# Altium schematic symbol library SchLib_ADH.SchLib: 241 symbols (part 4 of 9)
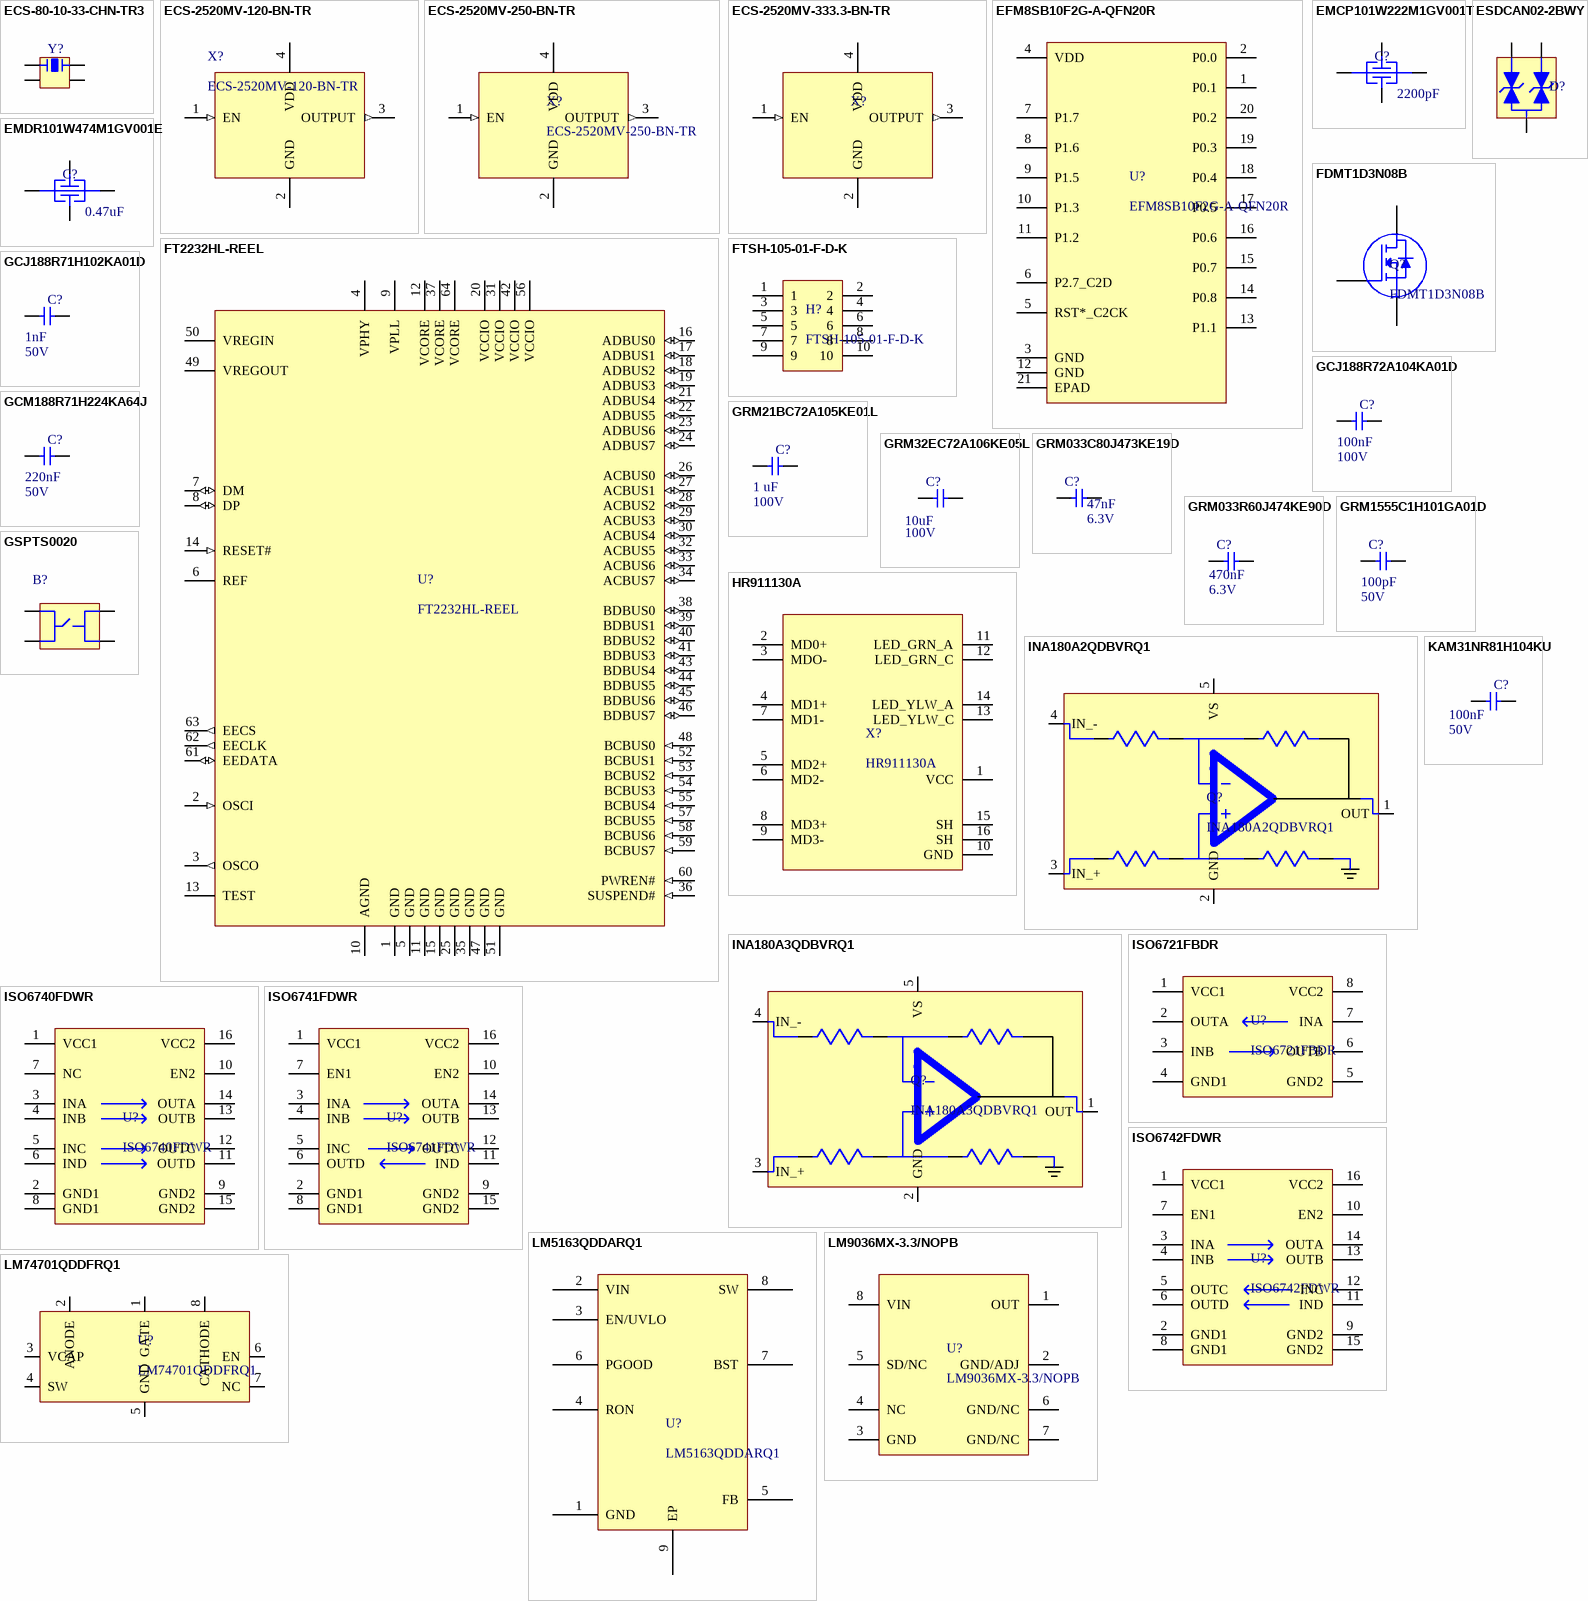
[diagram p10: symbols ECS-80-10-33-CHN-TR3 to LM74701QDDFRQ1]

## ECS-2520MV-333.3-BN-TR
designator X?  (value not drawn)
Oscillator XO 33.333MHz ±50ppm 15pF HCMOS 55% 1.8V/2.5V/3.3V 4-Pin Mini-CSMD T/R; Manufacturer: ECS International; Body Material: Ceramic; Fall Time: 7ns; Frequency: 33.3333MHz; Max Supply Current: 7mA; Max Supply Voltage: 3.6V; Min Supply Voltage: 1.6V; Supplier: Avnet; Supplier Part Number: ECS-2520MV-333.3-BN-TR; Manufacturer Part Number: ECS-2520MV-333.3-BN-TR; RoHS: Compliant; Category: Crystals; Stock: 6000; Pricing: 3000=0,99, 12000=0,985, 24000=0,98, 51000=0,975, 102000=0,97 (USD); Export Control Classification Number (ECCN) Code: EAR99; Frequency Stability: 50ppm; Introduction Date: 2018-03-21; Lifecycle Status: Production; Load Capacitance: 15pF; Max Operating Temperature: 85°C; Min Operating Temperature: -40°C; Mounting Technology: Surface Mount; Number of Terminals: 4; REACH SVHC: Yes; Rise Time: 7ns; Schedule B: 8542310000, 8542310000|8542310000|8542310000|8542310000|8542310000|8542310000|8542310000|8542310000|8542310000|8542310000|8542310000|8542310000|8542310000|8542310000|8542310000|8542310000|8542310000|8542310000|8542310000|8542310000|8542310000|8542310000|8542310000|85, 8542390000; ComponentLink1URL: https://datasheet.octopart.com:443/ECS-2520MV-333.3-BN-TR-ECS-International-datasheet-179230857.pdf?src-supplier=IHS; ComponentLink1Description: https://datasheet.octopart.com:443/ECS-2520MV-333.3-BN-TR-ECS-International-datasheet-179230857.pdf?src-supplier=IHS; ComponentLink2URL: https://datasheet.octopart.com:443/ECS-2520MV-333.3-BN-TR-ECS-International-datasheet-104167383.pdf?src-supplier=Master+Electronics; ComponentLink2Description: https://datasheet.octopart.com:443/ECS-2520MV-333.3-BN-TR-ECS-International-datasheet-104167383.pdf?src-supplier=Master+Electronics; ComponentLink3URL: https://datasheet.octopart.com:443/ECS-2520MV-333.3-BN-TR-ECS-International-datasheet-189099886.pdf?src-supplier=Master+Electronics; ComponentLink3Description: https://datasheet.octopart.com:443/ECS-2520MV-333.3-BN-TR-ECS-International-datasheet-189099886.pdf?src-supplier=Master+Electronics
footprint OSCCC250X200X90N
pins: 1 EN (in), 2 GND (power), 3 OUTPUT (out), 4 VDD (power)

## EFM8SB10F2G-A-QFN20R
designator U?
Microcontroller, 8-Bit, FLASH, 8051 CPU, 25MHz, CMOS; Manufacturer: Silicon Labs; Number of I/O Lines: 16; Speed: 25RPM; Max Supply Voltage: 3.6V; Min Supply Voltage: 1.8V; Nominal Supply Voltage: 3V; Supplier 1: Digikey; Manufacturer Part Number: EFM8SB10F2G-A-QFN20R; RoHS: Yes; Category: Microcontrollers; Stock 1: 2933; Pricing 1: 1=1.5, 10=1.341, 25=1.2728, 100=1.0454, 250=0.97716, 500=0.86356 (USD); Case/Package: HVQCCN; Pins: 20; Package Shape: Square; Min Operating Temperature: -40°C; Max Operating Temperature: 85°C; Clock Frequency: 25MHz; JESD-30 Code: S-XQCC-N20; Package Style: CHIP CARRIER, HEAT SINK/SLUG, VERY THIN PROFILEMeter; Surface Mount: Yes; Technology: CMOS; Terminal Form: No Lead; Terminal Position: QUAD; Length: 3mm; Width: 3mm; Height - Seated (Max): 0.6mm; Terminal Pitch: 0.5mm; Temperature Grade: INDUSTRIAL; Reach SVHC Compliant: Yes; RoHS Compliant: Yes; ComponentLink1URL: https://datasheet.ciiva.com:443/pdfs/VipMasterIC/IC/SILC/SILC-S-A0002743196/SILC-S-A0002743196-1.pdf?src-supplier=IHS+Markit; ComponentLink1Description: https://datasheet.ciiva.com:443/pdfs/VipMasterIC/IC/SILC/SILC-S-A0002743196/SILC-S-A0002743196-1.pdf?src-supplier=IHS+Markit; ComponentLink2URL: http://www.mouser.com/ds/2/368/EFM8SB1_DataSheet-533978.pdf?src-supplier=Mouser; ComponentLink2Description: http://www.mouser.com/ds/2/368/EFM8SB1_DataSheet-533978.pdf?src-supplier=Mouser; ComponentLink3URL: https://www.silabs.com/documents/public/data-sheets/efm8sb1-datasheet.pdf?src-supplier=Digikey; ComponentLink3Description: https://www.silabs.com/documents/public/data-sheets/efm8sb1-datasheet.pdf?src-supplier=Digikey; ComponentLink4URL: http://www.silabs.com/documents/public/data-sheets/efm8sb1-datasheet.pdf?src-supplier=Digikey; ComponentLink4Description: http://www.silabs.com/documents/public/data-sheets/efm8sb1-datasheet.pdf?src-supplier=Digikey; Supplier Part Number 1: 336-4748-1-ND
footprint QFN50P300X300X80-21N
pins: 1 P0.1, 2 P0.0, 3 GND, 4 VDD, 5 RST*_C2CK, 6 P2.7_C2D, 7 P1.7, 8 P1.6, 9 P1.5, 10 P1.3, 11 P1.2, 12 GND, 13 P1.1, 14 P0.8, 15 P0.7, 16 P0.6, 17 P0.5, 18 P0.4, 19 P0.3, 20 P0.2, 21 EPAD

## EMCP101W222M1GV001T
designator C?  value 2200pF  (hidden comment: EMCP101W222M1GV001T)
Cap Cer 2200PF 100V X7R 0603; Manufacturer: Johanson; Supplier: Digikey; Supplier Part Number: 709-EMCP101W222M1GV001TCT-ND; Manufacturer Part Number: EMCP101W222M1GV001T; RoHS: No; Category: Ceramic Capacitors; Stock: 38413; Pricing: 1=0,3, 10=0,197, 50=0,1452, 100=0,1183, 500=0,0934, 1000=0,07887 (USD)
footprint FIL_160X14W473MV4T
pins: 1, 2, 3, 4

## EMDR101W474M1GV001E
designator C?, comment value 0.47uF  (hidden comment: *EMDR101W474M1GV001E)
Mlcc X2Y 1812 .47UF 100V X7R; Manufacturer: Johanson; Supplier: Digikey; Supplier Part Number: 709-EMDR101W474M1GV001ECT-ND; Manufacturer Part Number: EMDR101W474M1GV001E; RoHS: No; Category: Ceramic Capacitors; Stock: 31831; Pricing: 1=1,84, 10=1,414, 50=1,2992, 100=1,0773, 500=0,86618 (USD)
footprint X2Y_1812
pins: 1, 2, 3, 4

## ESDCAN02-2BWY
designator D?  (value not drawn)
Trans Voltage Suppressor Diode, 250W, 26.5V V(RWM), Bidirectional, 2 Element, Silicon; Manufacturer: STMicroelectronics; Package Body Material: Plastic; Max Breakdown Voltage: 31.7V; Min Breakdown Voltage: 28.5V; Number of Elements: 2; Reference Standard: AEC-Q101; Supplier 1: Digikey; Manufacturer Part Number: ESDCAN02-2BWY; RoHS: Yes; Category: TVS Diodes; Stock 1: 18415; Pricing 1: 1=0.4, 10=0.309, 100=0.1854, 500=0.1717, 1000=0.11676 (USD); Pins: 3; Diode Element Material: SILICON; Package Shape: Rectangular; Min Operating Temperature: -55°C; Max Operating Temperature: 175°C; Polarity: Bidirectional; Diode Type: TRANS VOLTAGE SUPPRESSOR; JESD-30 Code: R-PDSO-G3; Non-rep Peak Rev Power Dis-Max: 250W; Package Style: SMALL OUTLINEMeter; Rep Pk Reverse Voltage-Max: 26.5V; Surface Mount: Yes; Technology: AVALANCHE; Terminal Form: Gull Wing; Terminal Position: DUAL; Reach SVHC Compliant: Yes; RoHS Compliant: Yes; ComponentLink1URL: https://datasheet.ciiva.com:443/pdfs/VipMasterIC/IC/SGST/SGST-S-A0006719210/SGST-S-A0006719210-1.pdf?src-supplier=IHS+Markit; ComponentLink1Description: https://datasheet.ciiva.com:443/pdfs/VipMasterIC/IC/SGST/SGST-S-A0006719210/SGST-S-A0006719210-1.pdf?src-supplier=IHS+Markit; ComponentLink2URL: http://www.mouser.com/ds/2/389/esdcan02-2bwy-954689.pdf?src-supplier=Mouser; ComponentLink2Description: http://www.mouser.com/ds/2/389/esdcan02-2bwy-954689.pdf?src-supplier=Mouser; ComponentLink3URL: https://www.st.com/resource/en/datasheet/esdcan06-2bwy.pdf?src-supplier=Digikey; ComponentLink3Description: https://www.st.com/resource/en/datasheet/esdcan06-2bwy.pdf?src-supplier=Digikey; Supplier Part Number 1: 497-15845-1-ND
footprint SOT65P210X110-3N
pins: 1, 2, 3

## FDMT1D3N08B
designator Q?
N-Channel PowerTrench® MOSFET, Dual CoolTM 88, 80V 164A, 1.35mΩ; Manufacturer: ON Semiconductor / Fairchild; Element Configuration: Single; Rds On Max: 1.35mR; Input Capacitance: 19.6nF; Max Power Dissipation: 178W; Supplier: Digikey; Supplier Part Number: 488-FDMT1D3N08BCT-ND; Manufacturer Part Number: FDMT1D3N08B; RoHS: Yes; Category: Uncategorized; Stock: 2821; Pricing: 1=6,32, 10=5,421, 100=4,5173, 500=3,98582, 1000=3,58723 (USD); Mounting Technology: Surface Mount; Pins: 8; Weight: 0.24852072g; Min Operating Temperature: -55°C; Max Operating Temperature: 150°C; Drain to Source Voltage (Vdss): 80V; Continuous Drain Current (ID): 164A; Series: PowerTrench®; RoHS Compliant: Yes; ComponentLink1URL: http://www.onsemi.com/pub/Collateral/FDMT1D3N08B-D.pdf?src-supplier=Digikey; ComponentLink1Description: http://www.onsemi.com/pub/Collateral/FDMT1D3N08B-D.pdf?src-supplier=Digikey
footprint PQFN8_8X8
pins: 1, 2, 3, 4, 5, 6, 7, 8

## FT2232HL-REEL
designator U?
USB Hi-Speed to Dual Channel Serial UART/FIFO/JTAG/SPI/I2C IC - LQFP-64; Manufacturer: FTDI; Data Rate: 60Mbps; Dual Supply Voltage: 3.3V; ESD Protection: Yes; Clock Frequency: 12MHz; Max Supply Voltage: 1.98V; Min Supply Voltage: 1.62V; Number of Channels: 2; Number of Transceivers: 4; Operating Supply Current: 70mA; Operating Supply Voltage: 1.8V; Supplier: Farnell; Supplier Part Number: 1697461; Manufacturer Part Number: FT2232HL-REEL; RoHS: Compliant; Category: UART Interface ICs; Stock: 54563; Pricing: 1=4,6, 10=4,42, 25=4,36, 50=4,31, 100=4,25, 250=4,06, 500=3,84 (EUR); Case/Package: LQFP; Features: I²C; Height: 1.4mm; Height - Seated (Max): 1.6mm; Lead Free: Lead Free; Length: 10mm; Lifecycle Status: Production; Max Operating Temperature: 85°C; Min Operating Temperature: -40°C; Mounting Technology: Surface Mount; Pins: 64; Number of Terminals: 64; Radiation Hardening: No; REACH SVHC: Yes; Schedule B: 8542390000, 8542390000|8542390000|8542390000|8542390000|8542390000; Terminal Pitch: 500µm; Weight: 342.689036mg; Width: 10mm; ComponentLink1URL: https://datasheet.octopart.com:443/FT2232HL-REEL-FTDI-datasheet-182343128.pdf?src-supplier=IHS; ComponentLink1Description: https://datasheet.octopart.com:443/FT2232HL-REEL-FTDI-datasheet-182343128.pdf?src-supplier=IHS; ComponentLink2URL: https://datasheet.octopart.com:443/FT2232HL-REEL-FTDI-datasheet-10548643.pdf?src-supplier=Upverter; ComponentLink2Description: https://datasheet.octopart.com:443/FT2232HL-REEL-FTDI-datasheet-10548643.pdf?src-supplier=Upverter; ComponentLink3URL: https://datasheet.octopart.com:443/FT2232HL-REEL-FTDI-datasheet-12520010.pdf?src-supplier=SHENGYU+ELECTRONICS; ComponentLink3Description: https://datasheet.octopart.com:443/FT2232HL-REEL-FTDI-datasheet-12520010.pdf?src-supplier=SHENGYU+ELECTRONICS; ComponentLink4URL: https://datasheet.octopart.com:443/FT2232HL-REEL-FTDI-datasheet-68321328.pdf?src-supplier=TME; ComponentLink4Description: https://datasheet.octopart.com:443/FT2232HL-REEL-FTDI-datasheet-68321328.pdf?src-supplier=TME; ComponentLink5URL: https://datasheet.octopart.com:443/FT2232HL-REEL-FTDI-datasheet-49858841.pdf?src-supplier=TME; ComponentLink5Description: https://datasheet.octopart.com:443/FT2232HL-REEL-FTDI-datasheet-49858841.pdf?src-supplier=TME; ComponentLink6URL: https://datasheet.octopart.com:443/FT2232HL-REEL-FTDI-datasheet-15949901.pdf?src-supplier=iiiC; ComponentLink6Description: https://datasheet.octopart.com:443/FT2232HL-REEL-FTDI-datasheet-15949901.pdf?src-supplier=iiiC
footprint LQFP-64-0.5mm (TSQFP, 64-Leads, Body 10.00x10.00mm, Pitch 0.50mm, IPC Medium Density)
pins: 1 GND (power), 2 OSCI (in), 3 OSCO (out), 4 VPHY (power), 5 GND (power), 6 REF, 7 DM (io), 8 DP (io), 9 VPLL (power), 10 AGND (power), 11 GND (power), 12 VCORE (power), 13 TEST, 14 RESET# (in), 15 GND (power), 16 ADBUS0 (io), 17 ADBUS1 (io), 18 ADBUS2 (io), 19 ADBUS3 (io), 20 VCCIO (power), 21 ADBUS4 (io), 22 ADBUS5 (io), 23 ADBUS6 (io), 24 ADBUS7 (io), 25 GND (power), 26 ACBUS0 (io), 27 ACBUS1 (io), 28 ACBUS2 (io), 29 ACBUS3 (io), 30 ACBUS4 (io), 31 VCCIO (power), 32 ACBUS5 (io), 33 ACBUS6 (io), 34 ACBUS7 (io), 35 GND (power), 36 SUSPEND# (in), 37 VCORE (power), 38 BDBUS0 (io), 39 BDBUS1 (io), 40 BDBUS2 (io), 41 BDBUS3 (io), 42 VCCIO (power), 43 BDBUS4 (io), 44 BDBUS5 (io), 45 BDBUS6 (io), 46 BDBUS7 (io), 47 GND (power), 48 BCBUS0 (in), 49 VREGOUT (power), 50 VREGIN (power), 51 GND (power), 52 BCBUS1 (in), 53 BCBUS2 (in), 54 BCBUS3 (in), 55 BCBUS4 (in), 56 VCCIO (power), 57 BCBUS5 (in), 58 BCBUS6 (in), 59 BCBUS7 (in), 60 PWREN# (in), 61 EEDATA (io), 62 EECLK (out), 63 EECS (out), 64 VCORE (power)

## FTSH-105-01-F-D-K
designator H?
Conn Unshrouded Header HDR 10 POS 1.27mm Solder ST Top Entry Thru-Hole Tube; Manufacturer: Samtec; Number of Positions: 10; Max Current Rating: 1.75A; Row Spacing: 0.05inch; Supplier: Digi-Key; Supplier Part Number: 612-FTSH-105-01-F-D-K-ND; Manufacturer Part Number: FTSH-105-01-F-D-K; RoHS: Yes; Category: Headers and Wire Housings; Stock: 19656; Pricing: 1=2,85, 10=2,591, 100=2,2826, 500=1,9402, 1000=1,65488, 5000=1,48369 (USD); Mounting Technology: Through Hole; Contact Plating: Gold; Contact Material: Bronze; Housing Color: Black; Housing Material: Polymer; Color: Black; Min Operating Temperature: -55°C; Max Operating Temperature: 125°C; Number of Rows: 2; Termination: Solder; Packaging: Rail/Tube; Number of Contacts: 10; Orientation: Straight; Series: FTSH; Contact Type: Male Pin; Package Quantity: 1; Length: 6.35mm; Pitch: 1.27mm; Depth: 3.43mm; Contact Mating Length: 0.12inch; Radiation Hardening: No; RoHS Compliant: Yes; ComponentLink1URL: https://datasheet.ciiva.com/15195/getdatasheetpartid-257317-15195258.pdf?src-supplier=Verical; ComponentLink1Description: https://datasheet.ciiva.com/15195/getdatasheetpartid-257317-15195258.pdf?src-supplier=Verical; ComponentLink2URL: https://datasheet.ciiva.com/727/ftsh-1xx-xx-xxx-d-xx-mkt-727195.pdf?src-supplier=Digi-Key; ComponentLink2Description: https://datasheet.ciiva.com/727/ftsh-1xx-xx-xxx-d-xx-mkt-727195.pdf?src-supplier=Digi-Key
footprint SAMTEC_FTSH-105-01-F-D-K
pins: 1, 2, 3, 4, 5, 6, 7, 8, 9, 10

## GCJ188R71H102KA01D
designator C?  value 1nF  Voltage Rating: 50V  (hidden comment: GCJ188R71H102KA01D)
Multilayer Ceramic Capacitor, 1000 pF, 50 V, ± 10%, X7R, 0603 [1608 Metric]; Manufacturer: Murata; Material: 4241ConductorMaterial; Supplier: Digikey; Supplier Part Number: 490-5768-1-ND; Manufacturer Part Number: GCJ188R71H102KA01D; RoHS: Yes; Category: Ceramic Capacitors; Stock: 165908; Pricing: 1=0,17, 10=0,098, 50=0,0686, 100=0,0595, 500=0,04414, 1000=0,03936 (USD); Mounting Technology: Surface Mount; Case/Package: 0603; Case Code (Metric): 1608; Case Code (Imperial): 0603; Min Operating Temperature: -55°C; Max Operating Temperature: 125°C; Package Quantity: 1; Tolerance: 10%; Packaging: Tape and Reel; Dielectric: X7R; Voltage Rating (DC): 50V; Termination: SMD/SMT; Features: Soft Termination; Series: GCJ; Length: 0.063inch; Width: 0.031inch; Thickness: 0.031inch; Ratings: AEC-Q200; RoHS Compliant: Yes; ComponentLink1URL: https://datasheet.ciiva.com/134/product-134545.pdf?src-supplier=Digikey; ComponentLink1Description: https://datasheet.ciiva.com/134/product-134545.pdf?src-supplier=Digikey; ComponentLink2URL: https://datasheet.ciiva.com/134/s0717e-134546.pdf?src-supplier=Digikey; ComponentLink2Description: https://datasheet.ciiva.com/134/s0717e-134546.pdf?src-supplier=Digikey; ComponentLink3URL: https://datasheet.ciiva.com/134/s0717e-134547.pdf?src-supplier=Digikey; ComponentLink3Description: https://datasheet.ciiva.com/134/s0717e-134547.pdf?src-supplier=Digikey
footprint CAPC1608X94N
pins: 1, 2 12

## GCJ188R72A104KA01D
designator C?  value 100nF  Voltage Rating: 100V  (hidden comment: GCJ188R72A104KA01D)
Cap Ceramic 0.1uF 100V X7R 10% Pad SMD 0603 Soft Termination 125C Automotive T/R; Manufacturer: Murata; Material: 4241ConductorMaterial; Supplier: Digikey; Supplier Part Number: 490-13420-1-ND; Manufacturer Part Number: GCJ188R72A104KA01D; RoHS: Yes; Category: Ceramic Capacitors; Stock: 681954; Pricing: 1=0,19, 10=0,123, 50=0,0774, 100=0,0619, 500=0,04472, 1000=0,03956 (USD); Mounting Technology: Surface Mount; Case/Package: 0603; Case Code (Metric): 1608; Case Code (Imperial): 0603; Min Operating Temperature: -55°C; Max Operating Temperature: 125°C; Packaging: Cut Tape; Tolerance: 10%; Features: Soft Termination; Series: GCJ; Length: 0.063inch; Width: 0.031inch; Height: 900um; Thickness: 0.035inch; Ratings: AEC-Q200; RoHS Compliant: Yes; Lead Free: 5697LeadFree; ComponentLink1URL: https://datasheet.octopart.com/GCJ188R72A104KA01D-Murata-datasheet-78375067.pdf?src-supplier=Future+Electronics; ComponentLink1Description: https://datasheet.octopart.com/GCJ188R72A104KA01D-Murata-datasheet-78375067.pdf?src-supplier=Future+Electronics; ComponentLink2URL: http://search.murata.co.jp/Ceramy/image/img/A01X/partnumbering_e_02.pdf?src-supplier=Digikey; ComponentLink2Description: http://search.murata.co.jp/Ceramy/image/img/A01X/partnumbering_e_02.pdf?src-supplier=Digikey; ComponentLink3URL: https://www.murata.com/~/media/webrenewal/support/library/catalog/products/capacitor/mlcc/c03e.ashx?la=en-us&src-supplier=Digikey; ComponentLink3Description: https://www.murata.com/~/media/webrenewal/support/library/catalog/products/capacitor/mlcc/c03e.ashx?la=en-us&src-supplier=Digikey; ComponentLink4URL: https://datasheet.octopart.com/GCJ188R72A104KA01D-Murata-datasheet-165611796.pdf?src-supplier=TME; ComponentLink4Description: https://datasheet.octopart.com/GCJ188R72A104KA01D-Murata-datasheet-165611796.pdf?src-supplier=TME
footprint CAPC1608X94N
pins: 1, 2 12

## GCM188R71H224KA64J
designator C?  value 220nF  Voltage Rating: 50V  (hidden comment: GCM188R71H224KA64J)
0603 50 V 0.22 uF ±10% Tolerance X7R SMT Multilayer Ceramic Capacitor; Manufacturer: Murata; Material: 4241ConductorMaterial; Supplier: Digikey; Supplier Part Number: 490-13307-1-ND; Manufacturer Part Number: GCM188R71H224KA64J; RoHS: Yes; Category: Ceramic Capacitors; Stock: 391306; Pricing: 1=0,17, 10=0,095, 50=0,0662, 100=0,0574, 500=0,04254, 1000=0,0379, 2500=0,03298, 5000=0,03001 (USD); Mounting Technology: Surface Mount; Case/Package: 0603; Case Code (Metric): 1608; Case Code (Imperial): 0603; Weight: 0.000222oz; Min Operating Temperature: -55°C; Max Operating Temperature: 125°C; Packaging: Tape and Reel; Tolerance: 10%; Dielectric: X7R; Termination: SMD/SMT; Voltage Rating (DC): 50V; Package Quantity: 10000; Series: GCM; Length: 0.063inch; Width: 0.031inch; Height: 0.8mm; Thickness: 0.035inch; Ratings: AEC-Q200; Lead Free: Lead Free; RoHS Compliant: Yes; ComponentLink1URL: http://www.mouser.com/ds/2/281/c03e-806517.pdf?src-supplier=Mouser; ComponentLink1Description: http://www.mouser.com/ds/2/281/c03e-806517.pdf?src-supplier=Mouser; ComponentLink2URL: https://datasheet.octopart.com/GCM188R71H224KA64J-Murata-datasheet-78376577.pdf?src-supplier=Future+Electronics; ComponentLink2Description: https://datasheet.octopart.com/GCM188R71H224KA64J-Murata-datasheet-78376577.pdf?src-supplier=Future+Electronics; ComponentLink3URL: https://datasheet.octopart.com/GCM188R71H224KA64J-Murata-datasheet-155345026.pdf?src-supplier=Element14; ComponentLink3Description: https://datasheet.octopart.com/GCM188R71H224KA64J-Murata-datasheet-155345026.pdf?src-supplier=Element14; ComponentLink4URL: http://search.murata.co.jp/Ceramy/image/img/A01X/partnumbering_e_02.pdf?src-supplier=Digikey; ComponentLink4Description: http://search.murata.co.jp/Ceramy/image/img/A01X/partnumbering_e_02.pdf?src-supplier=Digikey; ComponentLink5URL: https://www.murata.com/~/media/webrenewal/support/library/catalog/products/capacitor/mlcc/c03e.ashx?la=en-us&src-supplier=Digikey; ComponentLink5Description: https://www.murata.com/~/media/webrenewal/support/library/catalog/products/capacitor/mlcc/c03e.ashx?la=en-us&src-supplier=Digikey; ComponentLink6URL: http://psearch.en.murata.com/capacitor/product/GCM188R71H224KA64%23.pdf?src-supplier=Avnet; ComponentLink6Description: http://psearch.en.murata.com/capacitor/product/GCM188R71H224KA64%23.pdf?src-supplier=Avnet; ComponentLink7URL: https://datasheet.octopart.com/GCM188R71H224KA64J-Murata-datasheet-12511495.pdf?src-supplier=TME; ComponentLink7Description: https://datasheet.octopart.com/GCM188R71H224KA64J-Murata-datasheet-12511495.pdf?src-supplier=TME
footprint CAPC1608X94N
pins: 1, 2 12

## GRM21BC72A105KE01L
designator C?  value 1 uF  Voltage Rating: 100V  (hidden comment: GRM21BC72A105KE01L)
Multilayer Ceramic Capacitor, 1 uF, 100 V, ± 10%, X7S, 0805 [2012 Metric]; Manufacturer: Murata; Material: 4241ConductorMaterial; Supplier: Digikey; Supplier Part Number: 490-14464-1-ND; Manufacturer Part Number: GRM21BC72A105KE01L; RoHS: Yes; Category: Ceramic Capacitors; Stock: 863926; Pricing: 1=0,37, 10=0,247, 50=0,1818, 100=0,148, 500=0,11682, 1000=0,09865 (USD); Height: 1.45mm; ComponentLink1URL: http://search.murata.co.jp/Ceramy/image/img/A01X/G101/ENG/GRM21BC72A105KE01-01.pdf?src-supplier=Digikey; ComponentLink1Description: http://search.murata.co.jp/Ceramy/image/img/A01X/G101/ENG/GRM21BC72A105KE01-01.pdf?src-supplier=Digikey; ComponentLink2URL: https://search.murata.co.jp/Ceramy/image/img/A01X/G101/ENG/GRM21BC72A105KE01-01.pdf?src-supplier=Digikey; ComponentLink2Description: https://search.murata.co.jp/Ceramy/image/img/A01X/G101/ENG/GRM21BC72A105KE01-01.pdf?src-supplier=Digikey; ComponentLink3URL: https://datasheet.octopart.com/GRM21BC72A105KE01L-Murata-datasheet-155239195.pdf?src-supplier=Element14; ComponentLink3Description: https://datasheet.octopart.com/GRM21BC72A105KE01L-Murata-datasheet-155239195.pdf?src-supplier=Element14; ComponentLink4URL: https://datasheet.octopart.com/GRM21BC72A105KE01L-Murata-datasheet-165579666.pdf?src-supplier=TME; ComponentLink4Description: https://datasheet.octopart.com/GRM21BC72A105KE01L-Murata-datasheet-165579666.pdf?src-supplier=TME
footprint CAPC2012X145N
pins: 1, 2 12

## GRM32EC72A106KE05L
designator C?  value 10uF  Voltage Rating: 100V  (hidden comment: GRM32EC72A106KE05L)
Multilayer Ceramic Capacitor, 10 uF, 100 V, ± 10%, X7S, 1210 [3225 Metric]; Manufacturer: Murata; Material: 4241ConductorMaterial; Dielectric: 1542DielectricType; Supplier: Digikey; Supplier Part Number: 490-16266-1-ND; Manufacturer Part Number: GRM32EC72A106KE05L; RoHS: Yes; Category: Ceramic Capacitors; Stock: 207717; Pricing: 1=1,12, 10=0,841, 50=0,767, 100=0,6283, 500=0,50148 (USD); Mounting Technology: Surface Mount; Case/Package: 1210; Case Code (Imperial): 1210; Case Code (Metric): 3225; Min Operating Temperature: -55°C; Max Operating Temperature: 125°C; Packaging: Cut Tape; Tolerance: 10%; Series: GRM; Voltage Rating (DC): 100V; Length: 3.2mm; Width: 2.5mm; Height: 2.7mm; Thickness: 2.5mm; RoHS Compliant: Yes; ComponentLink1URL: http://search.murata.co.jp/Ceramy/image/img/A01X/G101/ENG/GRM32EC72A106KE05-01.pdf?src-supplier=Digikey; ComponentLink1Description: http://search.murata.co.jp/Ceramy/image/img/A01X/G101/ENG/GRM32EC72A106KE05-01.pdf?src-supplier=Digikey; ComponentLink2URL: https://datasheet.octopart.com/GRM32EC72A106KE05L-Murata-datasheet-165579666.pdf?src-supplier=TME; ComponentLink2Description: https://datasheet.octopart.com/GRM32EC72A106KE05L-Murata-datasheet-165579666.pdf?src-supplier=TME
footprint CAPC3225X140N
pins: 1, 2 12

## GRM033C80J473KE19D
designator C?  value 47nF  Voltage Rating: 6.3V  (hidden comment: GRM033C80J473KE19D)
6.3V 47nF X6S ±10% 0201 Multilayer Ceramic Capacitors MLCC - SMD/SMT ROHS; Manufacturer: Murata; Manufacturer Lifecycle Status: IN PRODUCTION; Supplier: Arrow Electronics; Supplier Part Number: GRM033C80J473KE19D; Manufacturer Part Number: GRM033C80J473KE19D; RoHS: Compliant; Category: Ceramic Capacitors; Stock: 1925; Pricing: 1924=0,0007 (USD); Case/Package: 0201; Case Code (Imperial): 0201; Case Code (Metric): 0603; Depth: 300µm; Dielectric: X6S; Dielectric Material: Ceramic; Height: 300µm; Lead Free: Lead Free; Length: 600µm; Lifecycle Status: Production; Material: Ceramic; Max Operating Temperature: 105°C; Min Operating Temperature: -55°C; Mounting Technology: Surface Mount; Number of Terminals: 2; Radiation Hardening: No; REACH SVHC: Yes; Schedule B: 8532240020, 8532240020|8532240020|8532240020|8532240020|8532240020; Termination: SMD/SMT; Thickness: 300µm; Tolerance: 10%; Voltage Rating (DC): 6.3V; Width: 300µm; ComponentLink1URL: https://datasheet.octopart.com:443/GRM033C80J473KE19D-Murata-datasheet-14396169.pdf?src-supplier=Future+Electronics; ComponentLink1Description: https://datasheet.octopart.com:443/GRM033C80J473KE19D-Murata-datasheet-14396169.pdf?src-supplier=Future+Electronics; ComponentLink2URL: https://datasheet.octopart.com:443/GRM033C80J473KE19D-Murata-datasheet-96971104.pdf?src-supplier=Future+Electronics; ComponentLink2Description: https://datasheet.octopart.com:443/GRM033C80J473KE19D-Murata-datasheet-96971104.pdf?src-supplier=Future+Electronics; ComponentLink3URL: https://datasheet.octopart.com:443/GRM033C80J473KE19D-Murata-datasheet-22122223.pdf?src-supplier=Future+Electronics; ComponentLink3Description: https://datasheet.octopart.com:443/GRM033C80J473KE19D-Murata-datasheet-22122223.pdf?src-supplier=Future+Electronics; ComponentLink4URL: https://datasheet.octopart.com:443/GRM033C80J473KE19D-Murata-datasheet-44105362.pdf?src-supplier=Future+Electronics; ComponentLink4Description: https://datasheet.octopart.com:443/GRM033C80J473KE19D-Murata-datasheet-44105362.pdf?src-supplier=Future+Electronics; ComponentLink5URL: https://datasheet.octopart.com:443/GRM033C80J473KE19D-Murata-datasheet-165579666.pdf?src-supplier=TME; ComponentLink5Description: https://datasheet.octopart.com:443/GRM033C80J473KE19D-Murata-datasheet-165579666.pdf?src-supplier=TME; ComponentLink6URL: https://datasheet.octopart.com:443/GRM033C80J473KE19D-Murata-datasheet-141274201.pdf?src-supplier=Ciiva; ComponentLink6Description: https://datasheet.octopart.com:443/GRM033C80J473KE19D-Murata-datasheet-141274201.pdf?src-supplier=Ciiva; ComponentLink7URL: https://datasheet.octopart.com:443/GRM033C80J473KE19D-Murata-datasheet-140675416.pdf?src-supplier=Ciiva; ComponentLink7Description: https://datasheet.octopart.com:443/GRM033C80J473KE19D-Murata-datasheet-140675416.pdf?src-supplier=Ciiva; ComponentLink8URL: https://datasheet.octopart.com:443/GRM033C80J473KE19D-Murata-datasheet-138738209.pdf?src-supplier=Ciiva; ComponentLink8Description: https://datasheet.octopart.com:443/GRM033C80J473KE19D-Murata-datasheet-138738209.pdf?src-supplier=Ciiva; ComponentLink9URL: https://datasheet.octopart.com:443/GRM033C80J473KE19D-Murata-datasheet-32479577.pdf?src-supplier=HQonline; ComponentLink9Description: https://datasheet.octopart.com:443/GRM033C80J473KE19D-Murata-datasheet-32479577.pdf?src-supplier=HQonline; ComponentLink10URL: https://datasheet.octopart.com/GRM033C80J473KE19D-Murata-datasheet-12515295.pdf; ComponentLink10Description: https://datasheet.octopart.com/GRM033C80J473KE19D-Murata-datasheet-12515295.pdf; ComponentLink11URL: https://datasheet.octopart.com/GRM033C80J473KE19D-Murata-datasheet-12510076.pdf; ComponentLink11Description: https://datasheet.octopart.com/GRM033C80J473KE19D-Murata-datasheet-12510076.pdf; ComponentLink12URL: https://datasheet.octopart.com/GRM033C80J473KE19D-Murata-datasheet-11978611.pdf; ComponentLink12Description: https://datasheet.octopart.com/GRM033C80J473KE19D-Murata-datasheet-11978611.pdf; ComponentLink13URL: https://datasheet.octopart.com/GRM033C80J473KE19D-Murata-datasheet-10025737.pdf; ComponentLink13Description: https://datasheet.octopart.com/GRM033C80J473KE19D-Murata-datasheet-10025737.pdf; ComponentLink14URL: https://datasheet.octopart.com/GRM033C80J473KE19D-Murata-datasheet-8819587.pdf; ComponentLink14Description: https://datasheet.octopart.com/GRM033C80J473KE19D-Murata-datasheet-8819587.pdf; ComponentLink15URL: https://datasheet.octopart.com:443/GRM033C80J473KE19D-Murata-datasheet-150009104.pdf?src-supplier=Arrow.cn; ComponentLink15Description: https://datasheet.octopart.com:443/GRM033C80J473KE19D-Murata-datasheet-150009104.pdf?src-supplier=Arrow.cn; ComponentLink16URL: http://sigma.octopart.com:80/reach_statement/Murata-company-16.pdf?src-supplier=Compliance+Statements; ComponentLink16Description: http://sigma.octopart.com:80/reach_statement/Murata-company-16.pdf?src-supplier=Compliance+Statements
footprint CAPC0603X33N
pins: 1, 2 12

## GRM033R60J474KE90D
designator C?  value 470nF  Voltage Rating: 6.3V  (hidden comment: GRM033R60J474KE90D)
Ceramic Capacitor, Ceramic, 6.3V, 10% +Tol, 10% -Tol, X5R, 15% TC, 0.47uF, Surface Mount, 0201; Manufacturer: Murata; Manufacturer Lifecycle Status: IN PRODUCTION; Supplier: Arrow Electronics; Supplier Part Number: GRM033R60J474KE90D; Manufacturer Part Number: GRM033R60J474KE90D; RoHS: Compliant; Category: Ceramic Capacitors; Stock: 1170000; Pricing: 15000=0,004 (USD); Case/Package: 0201; Case Code (Imperial): 0201; Case Code (Metric): 0603; Depth: 300µm; Dielectric: X5R; Dielectric Material: Ceramic; Height: 300µm; Lead Free: Lead Free; Length: 600µm; Lifecycle Status: Production; Material: Ceramic; Max Operating Temperature: 85°C; Min Operating Temperature: -55°C; Mounting Technology: Surface Mount; Number of Terminals: 2; Packaging: Tape & Reel (TR); REACH SVHC: Yes; Schedule B: 8532240020, 8532240020|8532240020, 8532240020|8532240020|8532240020, 8532240020|8532240020|8532240020|8532240020; Termination: SMD/SMT; Thickness: 300µm; Tolerance: 10%; Voltage Rating (DC): 6.3V; Weight: 340.194278µg; Width: 300µm; ComponentLink1URL: https://datasheet.octopart.com:443/GRM033R60J474KE90D-Murata-datasheet-165579666.pdf?src-supplier=TME; ComponentLink1Description: https://datasheet.octopart.com:443/GRM033R60J474KE90D-Murata-datasheet-165579666.pdf?src-supplier=TME; ComponentLink2URL: https://datasheet.octopart.com:443/GRM033R60J474KE90D-Murata-datasheet-141274201.pdf?src-supplier=Ciiva; ComponentLink2Description: https://datasheet.octopart.com:443/GRM033R60J474KE90D-Murata-datasheet-141274201.pdf?src-supplier=Ciiva; ComponentLink3URL: https://datasheet.octopart.com:443/GRM033R60J474KE90D-Murata-datasheet-140676048.pdf?src-supplier=Ciiva; ComponentLink3Description: https://datasheet.octopart.com:443/GRM033R60J474KE90D-Murata-datasheet-140676048.pdf?src-supplier=Ciiva; ComponentLink4URL: https://datasheet.octopart.com:443/GRM033R60J474KE90D-Murata-datasheet-138738366.pdf?src-supplier=Ciiva; ComponentLink4Description: https://datasheet.octopart.com:443/GRM033R60J474KE90D-Murata-datasheet-138738366.pdf?src-supplier=Ciiva; ComponentLink5URL: https://datasheet.octopart.com:443/GRM033R60J474KE90D-Murata-datasheet-22122223.pdf?src-supplier=Future+Electronics; ComponentLink5Description: https://datasheet.octopart.com:443/GRM033R60J474KE90D-Murata-datasheet-22122223.pdf?src-supplier=Future+Electronics; ComponentLink6URL: https://datasheet.octopart.com/GRM033R60J474KE90D-Murata-datasheet-12515295.pdf; ComponentLink6Description: https://datasheet.octopart.com/GRM033R60J474KE90D-Murata-datasheet-12515295.pdf; ComponentLink7URL: https://datasheet.octopart.com/GRM033R60J474KE90D-Murata-datasheet-12510076.pdf; ComponentLink7Description: https://datasheet.octopart.com/GRM033R60J474KE90D-Murata-datasheet-12510076.pdf; ComponentLink8URL: https://datasheet.octopart.com/GRM033R60J474KE90D-Murata-datasheet-11978611.pdf; ComponentLink8Description: https://datasheet.octopart.com/GRM033R60J474KE90D-Murata-datasheet-11978611.pdf; ComponentLink9URL: https://datasheet.octopart.com/GRM033R60J474KE90D-Murata-datasheet-10025737.pdf; ComponentLink9Description: https://datasheet.octopart.com/GRM033R60J474KE90D-Murata-datasheet-10025737.pdf; ComponentLink10URL: https://datasheet.octopart.com/GRM033R60J474KE90D-Murata-datasheet-8819587.pdf; ComponentLink10Description: https://datasheet.octopart.com/GRM033R60J474KE90D-Murata-datasheet-8819587.pdf; ComponentLink11URL: https://datasheet.octopart.com/GRM033R60J474KE90D-Murata-datasheet-17503195.pdf; ComponentLink11Description: https://datasheet.octopart.com/GRM033R60J474KE90D-Murata-datasheet-17503195.pdf; ComponentLink12URL: https://datasheet.octopart.com:443/GRM033R60J474KE90D-Murata-datasheet-150839311.pdf?src-supplier=Arrow.cn; ComponentLink12Description: https://datasheet.octopart.com:443/GRM033R60J474KE90D-Murata-datasheet-150839311.pdf?src-supplier=Arrow.cn; ComponentLink13URL: http://sigma.octopart.com:80/reach_statement/Murata-company-16.pdf?src-supplier=Compliance+Statements; ComponentLink13Description: http://sigma.octopart.com:80/reach_statement/Murata-company-16.pdf?src-supplier=Compliance+Statements
footprint CAPC0603X33N
pins: 1, 2 12

## GRM1555C1H101GA01D
designator C?  value 100pF  Voltage: 50V  (hidden comment: GRM1555C1H101GA01D)
0402 100 pF 50V ±2% Tolerance C0G SMT Multilayer Ceramic Capacitor; Manufacturer: Murata; Manufacturer Lifecycle Status: NRND; Temperature Coefficient: 30ppm/°C; Supplier: Arrow Electronics; Supplier Part Number: GRM1555C1H101GA01D; Manufacturer Part Number: GRM1555C1H101GA01D; RoHS: Compliant; Category: Ceramic Capacitors; Stock: 110000; Pricing: 10000=0,005, 50000=0,005, 100000=0,005 (USD); Case/Package: 0402; Case Code (Imperial): 0402; Case Code (Metric): 1005; Depth: 500µm; Dielectric: C0G; Dielectric Material: Ceramic; Height: 500µm; Lead Free: Lead Free; Length: 1mm; Lifecycle Status: NRND; Material: Ceramic; Max Operating Temperature: 125°C; Min Operating Temperature: -55°C; Mounting Technology: Surface Mount; Number of Terminals: 2; Packaging: Cut Tape; Radiation Hardening: No; REACH SVHC: Yes; Schedule B: 8532240020, 8532240020|8532240020, 8532240020|8532240020|8532240020, 8532240020|8532240020|8532240020|8532240020; Termination: SMD/SMT; Thickness: 500µm; Tolerance: 2%; Voltage Rating: 50V; Voltage Rating (DC): 50V; Width: 500µm; ComponentLink1URL: https://datasheet.octopart.com:443/GRM1555C1H101GA01D-Murata-datasheet-96711518.pdf?src-supplier=element14+APAC; ComponentLink1Description: https://datasheet.octopart.com:443/GRM1555C1H101GA01D-Murata-datasheet-96711518.pdf?src-supplier=element14+APAC; ComponentLink2URL: https://datasheet.octopart.com:443/GRM1555C1H101GA01D-Murata-datasheet-14396360.pdf?src-supplier=Future+Electronics; ComponentLink2Description: https://datasheet.octopart.com:443/GRM1555C1H101GA01D-Murata-datasheet-14396360.pdf?src-supplier=Future+Electronics; ComponentLink3URL: https://datasheet.octopart.com:443/GRM1555C1H101GA01D-Murata-datasheet-22122223.pdf?src-supplier=Future+Electronics; ComponentLink3Description: https://datasheet.octopart.com:443/GRM1555C1H101GA01D-Murata-datasheet-22122223.pdf?src-supplier=Future+Electronics; ComponentLink4URL: https://datasheet.octopart.com:443/GRM1555C1H101GA01D-Murata-datasheet-44105801.pdf?src-supplier=Future+Electronics; ComponentLink4Description: https://datasheet.octopart.com:443/GRM1555C1H101GA01D-Murata-datasheet-44105801.pdf?src-supplier=Future+Electronics; ComponentLink5URL: https://datasheet.octopart.com:443/GRM1555C1H101GA01D-Murata-datasheet-165579666.pdf?src-supplier=TME; ComponentLink5Description: https://datasheet.octopart.com:443/GRM1555C1H101GA01D-Murata-datasheet-165579666.pdf?src-supplier=TME; ComponentLink6URL: https://datasheet.octopart.com:443/GRM1555C1H101GA01D-Murata-datasheet-141266224.pdf?src-supplier=Ciiva; ComponentLink6Description: https://datasheet.octopart.com:443/GRM1555C1H101GA01D-Murata-datasheet-141266224.pdf?src-supplier=Ciiva; ComponentLink7URL: https://datasheet.octopart.com:443/GRM1555C1H101GA01D-Murata-datasheet-140680857.pdf?src-supplier=Ciiva; ComponentLink7Description: https://datasheet.octopart.com:443/GRM1555C1H101GA01D-Murata-datasheet-140680857.pdf?src-supplier=Ciiva; ComponentLink8URL: https://datasheet.octopart.com:443/GRM1555C1H101GA01D-Murata-datasheet-138739441.pdf?src-supplier=Ciiva; ComponentLink8Description: https://datasheet.octopart.com:443/GRM1555C1H101GA01D-Murata-datasheet-138739441.pdf?src-supplier=Ciiva; ComponentLink9URL: https://datasheet.octopart.com/GRM1555C1H101GA01D-Murata-datasheet-12515295.pdf; ComponentLink9Description: https://datasheet.octopart.com/GRM1555C1H101GA01D-Murata-datasheet-12515295.pdf; ComponentLink10URL: https://datasheet.octopart.com/GRM1555C1H101GA01D-Murata-datasheet-12510076.pdf; ComponentLink10Description: https://datasheet.octopart.com/GRM1555C1H101GA01D-Murata-datasheet-12510076.pdf; ComponentLink11URL: https://datasheet.octopart.com/GRM1555C1H101GA01D-Murata-datasheet-11978611.pdf; ComponentLink11Description: https://datasheet.octopart.com/GRM1555C1H101GA01D-Murata-datasheet-11978611.pdf; ComponentLink12URL: https://datasheet.octopart.com/GRM1555C1H101GA01D-Murata-datasheet-10025737.pdf; ComponentLink12Description: https://datasheet.octopart.com/GRM1555C1H101GA01D-Murata-datasheet-10025737.pdf; ComponentLink13URL: https://datasheet.octopart.com/GRM1555C1H101GA01D-Murata-datasheet-8819587.pdf; ComponentLink13Description: https://datasheet.octopart.com/GRM1555C1H101GA01D-Murata-datasheet-8819587.pdf; ComponentLink14URL: http://sigma.octopart.com:80/reach_statement/Murata-company-16.pdf?src-supplier=Compliance+Statements; ComponentLink14Description: http://sigma.octopart.com:80/reach_statement/Murata-company-16.pdf?src-supplier=Compliance+Statements
footprint CAPC1005X55N
pins: 1, 2 12

## GSPTS0020
designator B?  (value not drawn)
Tactile Switch SPST-NO Top Actuated Surface Mount; Datasheet: https://www.ckswitches.com/media/2728/pts815.pdf
footprint SW4_PTS815 SJM 250 SMTR LFS_CNK
pins: 1, 2, 3, 4

## HR911130A
designator X?
Jack Modular Connector RJ45 Through Hole; Manufacturer Part Number: HR911130A
footprint HR911130A
pins: 1 VCC, 2 MD0+, 3 MDO-, 4 MD1+, 5 MD2+, 6 MD2-, 7 MD1-, 8 MD3+, 9 MD3-, 10 GND, 11 LED_GRN_A, 12 LED_GRN_C, 13 LED_YLW_C, 14 LED_YLW_A, 15 SH, 16 SH

## INA180A2QDBVRQ1
designator Q?
AEC-Q100, 26V, 350kHz current sense amplifier 5-SOT-23 -40 to 125; Manufacturer: Texas Instruments; Gain: 50 V/V; Supplier: Digi-Key; Supplier Part Number: 296-INA180A2QDBVRQ1CT-ND; Manufacturer Part Number: INA180A2QDBVRQ1; RoHS: Yes; Category: Amplifiers - Op Amps, Buffer, Instrumentation; Stock: 4641; Pricing: 1=0,58, 10=0,492, 25=0,4596, 100=0,3676, 250=0,34136, 500=0,28886, 1000=0,22321 (USD)
footprint SOT95P280X145-5N
pins: 1, 1, 1, 1, 1 OUT, 2, 2, 2, 2, 2 GND, 3 IN_+, 4 IN_-, 5 VS

## INA180A3QDBVRQ1
designator Q?
AEC-Q100, 26V, 350kHz current sense amplifier 5-SOT-23 -40 to 125; Manufacturer: Texas Instruments; Gain: 100 V/V; Supplier: Digi-Key; Supplier Part Number: 296-INA180A3QDBVRQ1CT-ND; Manufacturer Part Number: INA180A3QDBVRQ1; RoHS: Yes; Category: Amplifiers - Op Amps, Buffer, Instrumentation; Stock: 34547; Pricing: 1=0,61, 10=0,526, 25=0,4912, 100=0,3931, 250=0,365, 500=0,30886, 1000=0,23866 (USD)
footprint SOT95P280X145-5N
pins: 1, 1, 1, 1, 1 OUT, 2, 2, 2, 2, 2 GND, 3 IN_+, 4 IN_-, 5 VS

## ISO6721FBDR
designator U?
General-purpose, dual-channel, 1/1 digital isolator 8-SOIC -40 to 125; Manufacturer: Texas Instruments; Supplier: Digikey; Supplier Part Number: 296-ISO6721FBDRCT-ND; Manufacturer Part Number: ISO6721FBDR; RoHS: No; Category: Integrated Circuits (ICs); Stock: 4838; Pricing: 1=1,64, 10=1,472, 25=1,3888, 100=1,1832, 250=1,111, 500=0,97212, 1000=0,80548 (USD)
footprint SOIC127P599X175-8N
pins: 1 VCC1, 2 OUTA, 3 INB, 4 GND1, 5 GND2, 6 OUTB, 7 INA, 8 VCC2

## ISO6740FDWR
designator U?
General-purpose, quad-channel, 4/0 digital isolator 16-SOIC -40 to 125; Manufacturer: Texas Instruments; Supplier: Digikey; Supplier Part Number: 296-ISO6740FDWRCT-ND; Manufacturer Part Number: ISO6740FDWR; RoHS: No; Category: Integrated Circuits (ICs); Stock: 2610; Pricing: 1=2,85, 10=2,556, 25=2,4112, 100=2,0545, 250=1,92912, 500=1,68796, 1000=1,3986 (USD)
footprint SOIC127P1030X265-16N
pins: 1 VCC1, 2 GND1, 3 INA, 4 INB, 5 INC, 6 IND, 7 NC, 8 GND1, 9 GND2, 10 EN2, 11 OUTD, 12 OUTC, 13 OUTB, 14 OUTA, 15 GND2, 16 VCC2

## ISO6741FDWR
designator U?
General-purpose, quad-channel, 3/1 digital isolator 16-SOIC -40 to 125; Manufacturer: Texas Instruments; Supplier: Digikey; Supplier Part Number: 296-ISO6741FDWRCT-ND; Manufacturer Part Number: ISO6741FDWR; RoHS: Yes; Category: Integrated Circuits (ICs); Stock: 2924; Pricing: 1=2,85, 10=2,556, 25=2,4112, 100=2,0545, 250=1,92912, 500=1,68796, 1000=1,3986 (USD)
footprint SOIC127P1030X265-16N
pins: 1 VCC1, 2 GND1, 3 INA, 4 INB, 5 INC, 6 OUTD, 7 EN1, 8 GND1, 9 GND2, 10 EN2, 11 IND, 12 OUTC, 13 OUTB, 14 OUTA, 15 GND2, 16 VCC2

## ISO6742FDWR
designator U?
General-purpose, quad-channel, 2/2 digital isolator 16-SOIC -40 to 125; Manufacturer: Texas Instruments; Supplier: Digikey; Supplier Part Number: 296-ISO6742FDWRCT-ND; Manufacturer Part Number: ISO6742FDWR; RoHS: No; Category: Interface ICs; Stock: 3040; Pricing: 1=2,84, 10=2,553, 25=2,4088, 100=2,0523, 250=1,92708, 500=1,6862, 1000=1,39713 (USD)
footprint SOIC127P1030X265-16N
pins: 1 VCC1, 2 GND1, 3 INA, 4 INB, 5 OUTC, 6 OUTD, 7 EN1, 8 GND1, 9 GND2, 10 EN2, 11 IND, 12 INC, 13 OUTB, 14 OUTA, 15 GND2, 16 VCC2

## KAM31NR81H104KU
designator C?  value 100nF  Voltage: 50V  (hidden comment: KAM31NR81H104KU)
0.1 µF ±10% 50V Ceramic Capacitor X8R 1206 (3216 Metric); Manufacturer: Kyocera AVX; Supplier: Digi-Key; Supplier Part Number: 478-KAM31NR81H104KUCT-ND; Manufacturer Part Number: KAM31NR81H104KU; RoHS: No; Stock: 245787; Pricing: 1=0,25, 10=0,173, 50=0,1152, 100=0,0979, 500=0,06912, 1000=0,06048 (USD)
footprint CAPC3216X160N
pins: 1, 2

## LM5163QDDARQ1
designator U?
Switching Regulator, 0.5A, 1000kHz Switching Freq-Max, PDSO8; Manufacturer: Texas Instruments; Supplier 1: Digikey; Manufacturer Part Number: LM5163QDDARQ1; RoHS: Yes; Category: Voltage Regulators - Switching; Stock 1: 22448; Pricing 1: 1=2.98, 10=2.68, 25=2.534, 100=2.196, 250=2.08336, 500=1.8694, 1000=1.57661 (USD); ComponentLink1URL: https://www.ti.com:443/lit/ds/symlink/lm5163-q1.pdf?src-supplier=IHS+Markit; ComponentLink1Description: https://www.ti.com:443/lit/ds/symlink/lm5163-q1.pdf?src-supplier=IHS+Markit; ComponentLink2URL: http://www.ti.com/general/docs/suppproductinfo.tsp?distId=10&amp;gotoUrl=http%3A%2F%2Fwww.ti.com%2Flit%2Fgpn%2flm5163-q1&src-supplier=Digikey; ComponentLink2Description: http://www.ti.com/general/docs/suppproductinfo.tsp?distId=10&amp;gotoUrl=http%3A%2F%2Fwww.ti.com%2Flit%2Fgpn%2flm5163-q1&src-supplier=Digikey; Supplier Part Number 1: 296-53561-1-ND
footprint SOIC127P600X163-9N
pins: 1 GND, 2 VIN, 3 EN/UVLO, 4 RON, 5 FB, 6 PGOOD, 7 BST, 8 SW, 9 EP

## LM9036MX-3.3/NOPB
designator U?
50-mA, 40-V, low-IQ, low-dropout voltage regulator 8-SOIC -40 to 125; Manufacturer: TI National Semiconductor; Supplier: Digikey; Supplier Part Number: 296-46309-1-ND; Manufacturer Part Number: LM9036MX-3.3/NOPB; RoHS: Yes; Category: Voltage Regulators - Linear; Stock: 6835; Pricing: 1=0,94, 10=0,83, 25=0,7796, 100=0,6363, 250=0,591, 500=0,50298, 1000=0,40238 (USD); ComponentLink1URL: http://components.arrow.com/part/dataview/41726551S9018649N1317?src-supplier=Arrow+Electronics; ComponentLink1Description: http://components.arrow.com/part/dataview/41726551S9018649N1317?src-supplier=Arrow+Electronics; ComponentLink2URL: http://www.ti.com/lit/ds/symlink/lm9036.pdf?src-supplier=Digikey; ComponentLink2Description: http://www.ti.com/lit/ds/symlink/lm9036.pdf?src-supplier=Digikey; ComponentLink3URL: http://www.ti.com/general/docs/suppproductinfo.tsp?distId=10&amp;gotoUrl=http%3A%2F%2Fwww.ti.com%2Flit%2Fgpn%2Flm9036&src-supplier=Digikey; ComponentLink3Description: http://www.ti.com/general/docs/suppproductinfo.tsp?distId=10&amp;gotoUrl=http%3A%2F%2Fwww.ti.com%2Flit%2Fgpn%2Flm9036&src-supplier=Digikey; ComponentLink4URL: http://www.ti.com/lit/ds/snvs140d/snvs140d.pdf?src-supplier=Avnet; ComponentLink4Description: http://www.ti.com/lit/ds/snvs140d/snvs140d.pdf?src-supplier=Avnet; ComponentLink5URL: http://www.ti.com/litv/SNVS140D?src-supplier=Mouser; ComponentLink5Description: http://www.ti.com/litv/SNVS140D?src-supplier=Mouser
footprint SOIC127P599X175-8N
pins: 1 OUT, 2 GND/ADJ, 3 GND, 4 NC, 5 SD/NC, 6 GND/NC, 7 GND/NC, 8 VIN

## LM74701QDDFRQ1
designator U?
Automotive 3.2-V to 65-V reverse battery protection ideal diode controller with integrated VDS clamp 8-SOT-23-THIN...; Manufacturer: Texas Instruments; Supplier: Digi-Key; Supplier Part Number: 296-LM74701QDDFRQ1CT-ND; Manufacturer Part Number: LM74701QDDFRQ1; RoHS: No; Category: Integrated Circuits (ICs); Stock: 11873; Pricing: 1=2,37, 10=2,125, 25=2,0048, 100=1,7081, 250=1,60388, 500=1,4034, 1000=1,16281 (USD)
footprint SOT65P280X110-8N
pins: 1 GATE, 2 ANODE, 3 VCAP, 4 SW, 5 GND, 6 EN, 7 NC, 8 CATHODE

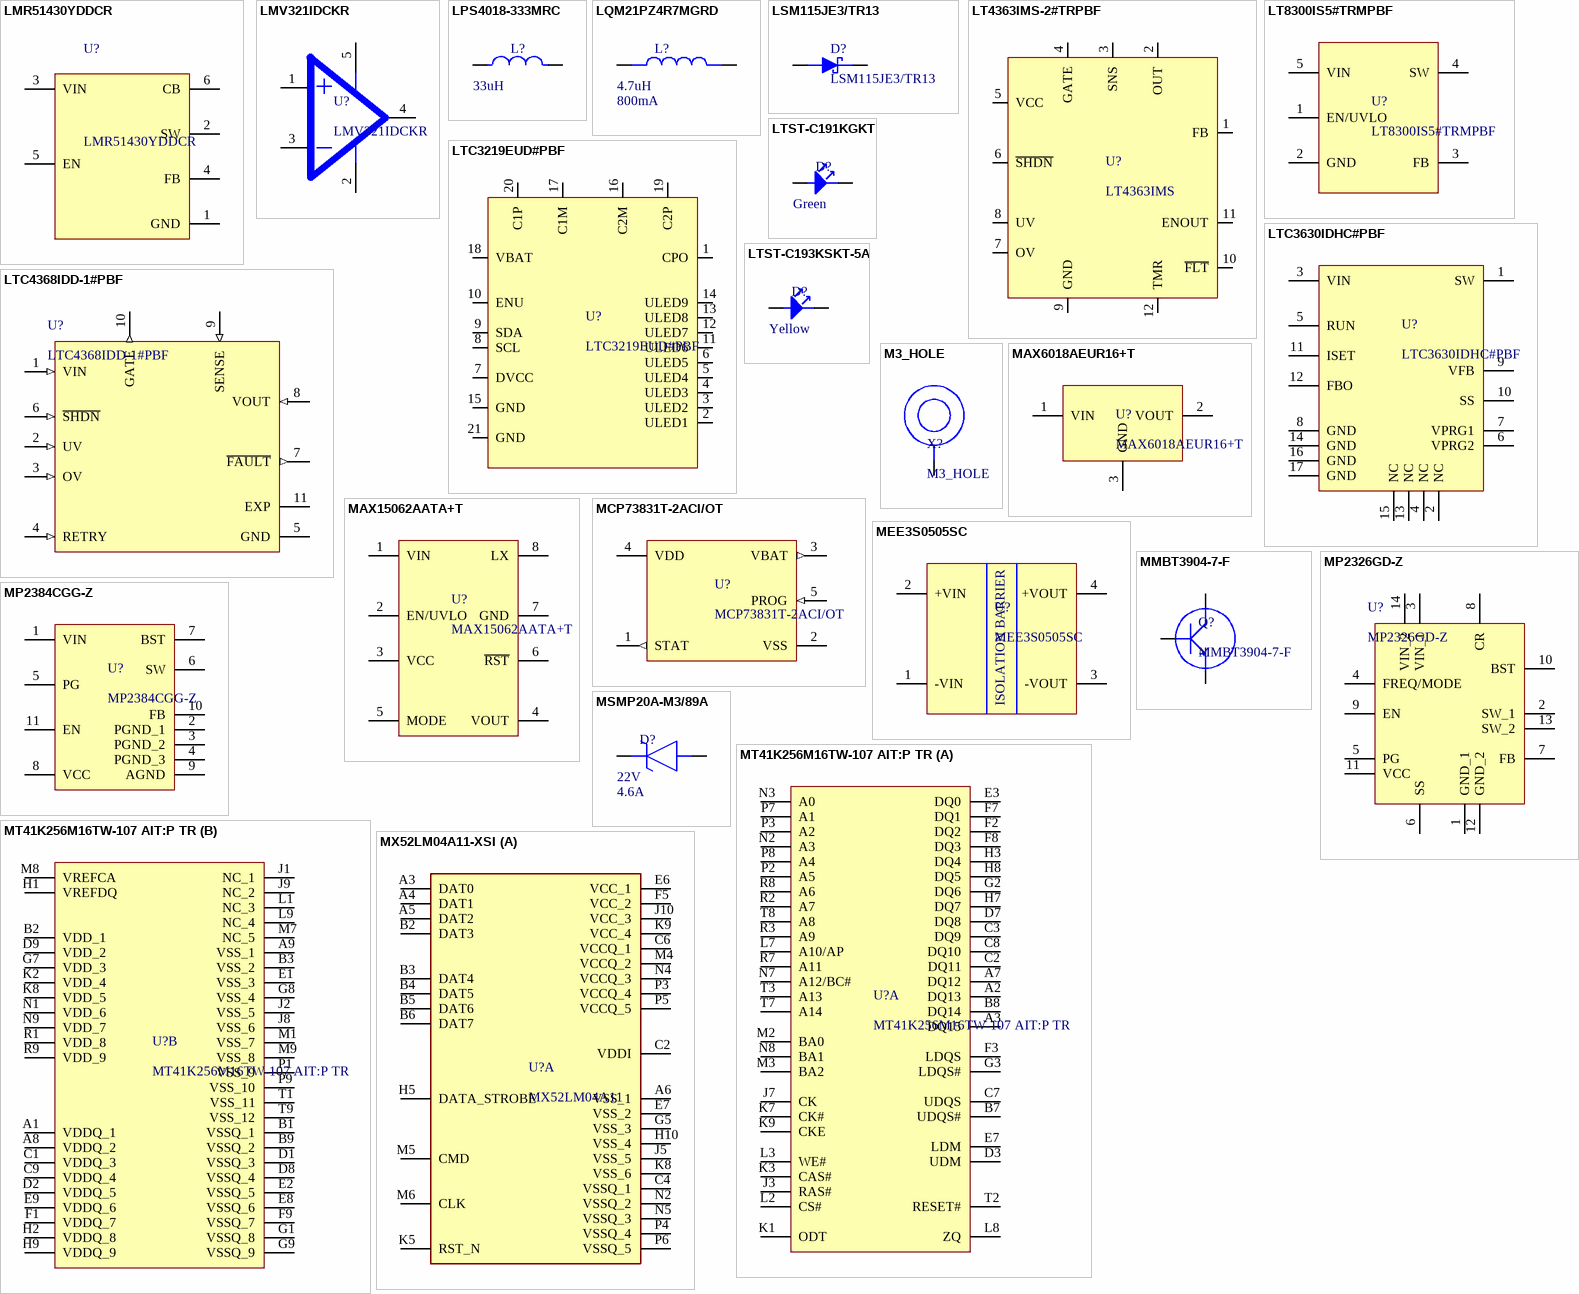
[diagram p3: symbols LMR51430YDDCR to MX52LM04A11-XSI]

## LMR51430YDDCR
designator U?
Switching Voltage Regulators SIMPLE SWITCHER&reg; 4.5-V to 36-V, 3-A synchronous buck converter with 40-&micro;A IQ; Manufacturer_Name: Texas Instruments; Geometry.Height: 1.1mm; Manufacturer_Part_Number: LMR51430YDDCR; Mouser Part Number: 595-LMR51430YDDCR; Mouser Price/Stock: https://www.mouser.co.uk/ProductDetail/Texas-Instruments/LMR51430YDDCR?qs=vvQtp7zwQdMdLcsY5sFiMg%3D%3D; Arrow Part Number: LMR51430YDDCR; Arrow Price/Stock: https://www.arrow.com/en/products/lmr51430yddcr/texas-instruments?utm_currency=USD&region=nac; Datasheet Link: https://www.ti.com/lit/ds/symlink/lmr51430.pdf?ts=1657817980313&ref_url=https%253A%252F%252Fwww.ti.com%252Fproduct%252FLMR51430%253FkeyMatch%253DLMR51430%2526tisearch%253Dsearch-everything%2526usecase%253DGPN
footprint SOT95P280X110-6N
pins: 1 GND, 2 SW, 3 VIN, 4 FB, 5 EN, 6 CB

## LMV321IDCKR
designator U?
General Purpose Amplifier 1 Circuit Rail-to-Rail SC-70-5; Manufacturer: Texas Instruments; Slew Rate: 1V/µs; Common Mode Rejection Ratio: 50dB; Max Supply Voltage: 5.5V; Min Supply Voltage: 2.7V; Voltage Gain: 100dB; Number of Channels: 1; Output Current: 160mA; Gain Bandwidth Product: 1MHz; Input Bias Current: 250nA; Input Offset Voltage (Vos): 7mV; Operating Supply Current: 130uA; Supply Current: 250uA; Supplier: Digi-Key; Supplier Part Number: 296-9568-1-ND; Manufacturer Part Number: LMV321IDCKR; RoHS: Yes; Category: Amplifiers - Op Amps, Buffer, Instrumentation; Stock: 42677; Pricing: 1=0,43, 10=0,371, 25=0,3464, 100=0,2771, 250=0,25736, 500=0,21776, 1000=0,16827 (USD); Mounting Technology: Surface Mount; Case/Package: SC; Pins: 5; Min Operating Temperature: -40°C; Max Operating Temperature: 125°C; Packaging: Tape and Reel; Package Quantity: 1; Number of Circuits: 1; Output Current per Channel: 160mA; Series: -; Amplifier Type: GENERAL PURPOSE; Technology: BICMOS; Bandwidth: 1MHz; Unity Gain Bandwidth Product: 1MHz; Number of Elements: 1; Number of Amplifiers: 1; Radiation Hardening: No; Lead Free: Lead Free; RoHS Compliant: Yes; Reach SVHC Compliant: No; ComponentLink1URL: https://datasheet.ciiva.com/27052/1348341-27052054.pdf?src-supplier=Jameco; ComponentLink1Description: https://datasheet.ciiva.com/27052/1348341-27052054.pdf?src-supplier=Jameco; ComponentLink2URL: https://datasheet.ciiva.com/6002/1777533-6002347.pdf?src-supplier=Farnell; ComponentLink2Description: https://datasheet.ciiva.com/6002/1777533-6002347.pdf?src-supplier=Farnell; ComponentLink3URL: https://datasheet.ciiva.com/1803/lmv324-1803157.pdf?src-supplier=Digi-Key; ComponentLink3Description: https://datasheet.ciiva.com/1803/lmv324-1803157.pdf?src-supplier=Digi-Key; ComponentLink4URL: https://datasheet.ciiva.com/1803/lmv324-1803156.pdf?src-supplier=Digi-Key; ComponentLink4Description: https://datasheet.ciiva.com/1803/lmv324-1803156.pdf?src-supplier=Digi-Key; ComponentLink5URL: https://datasheet.ciiva.com/1803/lmv324-1803158.pdf?src-supplier=Digi-Key; ComponentLink5Description: https://datasheet.ciiva.com/1803/lmv324-1803158.pdf?src-supplier=Digi-Key; ComponentLink6URL: https://datasheet.ciiva.com/2973/lmv358-2973566.pdf?src-supplier=Avnet; ComponentLink6Description: https://datasheet.ciiva.com/2973/lmv358-2973566.pdf?src-supplier=Avnet; ComponentLink7URL: https://datasheet.ciiva.com/2973/lmv358-2973565.pdf?src-supplier=Avnet; ComponentLink7Description: https://datasheet.ciiva.com/2973/lmv358-2973565.pdf?src-supplier=Avnet
footprint SOT65P210X110-5N
pins: 1 IN+, 2 GND, 3 IN-, 4 OUT, 5 VCC

## LPS4018-333MRC
designator L?  value 33uH  (hidden comment: LPS4018-333MRC)
Power inductor, shielded, 20/30% tol, SMT, RoHS, lead-free, halogen-free; Manufacturer: Coilcraft; Core Material: Ferrite; Tolerance: 20%; Max DC Current: 680mA; Self Resonant Frequency: 20MHz; Test Frequency: 100kHz; Supplier: Mouser; Supplier Part Number: 994-LPS4018-333MRC; Manufacturer Part Number: LPS4018-333MRC; RoHS: No; Category: Inductors; Stock: 19673; Pricing: 1=1,19, 10=1,19, 50=1,19, 100=1,19, 1000=0,615, 10000=0,615 (USD); Case/Package: SMD/SMT; Weight: 0.003527oz; Min Operating Temperature: -40°C; Max Operating Temperature: 85°C; Shielding: Shielded; Termination: SMD/SMT; Packaging: Tape and Reel; Package Quantity: 1000; Series: LPS4018; Length: 4mm; Width: 4mm; Height: 1.7mm; RoHS Compliant: No; ComponentLink1URL: http://www.mouser.com/ds/2/597/lps4018-270702.pdf?src-supplier=Mouser; ComponentLink1Description: http://www.mouser.com/ds/2/597/lps4018-270702.pdf?src-supplier=Mouser
footprint LPS4018-333MRC
pins: 1, 2

## LQM21PZ4R7MGRD
designator L?  value 4.7uH  Current Rating: 800mA  (hidden comment: LQM21PZ4R7MGRD)
Inductor Power Chip Shielded Multi-Layer 4.7uH 20% 1MHz Ferrite 0.8A 0.288Ohm DCR 0805 Automotive T/R; Manufacturer: Murata; DC Resistance (DCR): 230mR; Self Resonant Frequency: 30MHz; Supplier: Digi-Key; Supplier Part Number: 490-16285-1-ND; Manufacturer Part Number: LQM21PZ4R7MGRD; RoHS: Yes; Category: Fixed Inductors; Stock: 17403; Pricing: 1=0,33, 10=0,271, 25=0,2504, 50=0,2298, 100=0,2026, 250=0,19632, 500=0,17542, 1000=0,14201 (USD); Mounting Technology: Surface Mount; Case/Package: 0805; Core Material: Ferrite; Case Code (Imperial): 0805; Case Code (Metric): 2012; Min Operating Temperature: -55°C; Max Operating Temperature: 125°C; Packaging: Cut Tape; Tolerance: 20%; Shielding: Shielded; Test Frequency: 1MHz; Series: LQM21; Ratings: AEC-Q200; RoHS Compliant: Yes; ComponentLink1URL: http://search.murata.co.jp/Ceramy/image/img/P02/JELF243B-9114.pdf?src-supplier=Digi-Key; ComponentLink1Description: http://search.murata.co.jp/Ceramy/image/img/P02/JELF243B-9114.pdf?src-supplier=Digi-Key
footprint INDC2012X100N
pins: 1, 2

## LSM115JE3/TR13
designator D?
Rectifier Diode, Schottky, 1 Phase, 1 Element, 1A, 15V V(RRM), Silicon, DO-214BA; Manufacturer: Microchip; Supplier: Digi-Key; Supplier Part Number: 150-LSM115JE3/TR13CT-ND; Manufacturer Part Number: LSM115JE3/TR13; RoHS: Yes; Category: Rectifier Diodes; Stock: 248555; Pricing: 1=0,55, 100=0,5 (USD)
footprint NMINIP2-J1
pins: 1 A, 2 C